# EAGLE library part MOUSE (library Amiga)
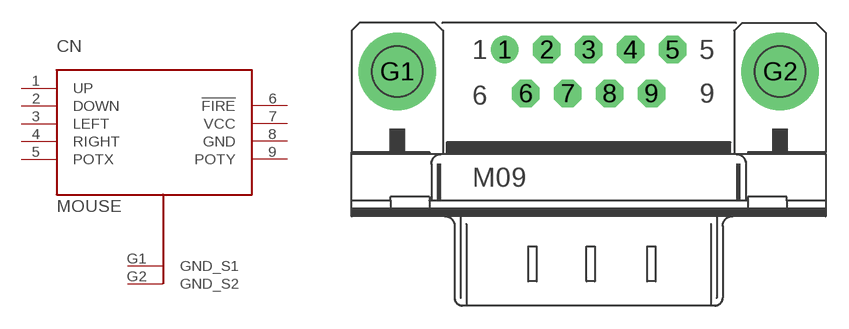
[diagram p29: symbol with the pads of M09H_FC; footprint M09H_FC]

Designator prefix CN

## MOUSE_9D_SUB_M  [M09H_FC]
1  UP
2  DOWN
3  LEFT
4  RIGHT
5  POTX
6  !FIRE!
7  VCC
8  GND
9  POTY
G1  GND_S1  pwr
G2  GND_S2  pwr

## Footprint M09H_FC (pad centres in mm)
drill 1.1 pad 1.8: 1 -5.486,1.429
drill 1.1 pad 1.8 octagon: 2 -2.743,1.429; 3 0,1.429; 4 2.743,1.429; 5 5.486,1.429; 6 -4.115,-1.429; 7 -1.372,-1.429; 8 1.372,-1.429; 9 4.115,-1.429
drill 3.302 pad 5.08: G1 -12.522,0; G2 12.522,0